# Altium footprint library FPGA-pcie.PcbLib: 31 footprints (part 2 of 2)
Each footprint in its own frame and in the unit in brackets; x right, y up, seen from the top. Pads: shape width x height; smd on the part's side, far side on the other; paste and mask are expansions set on the pad; w line width, h text height; cw(c..) or ccw(c..) is an arc to the next point about the centre after c.
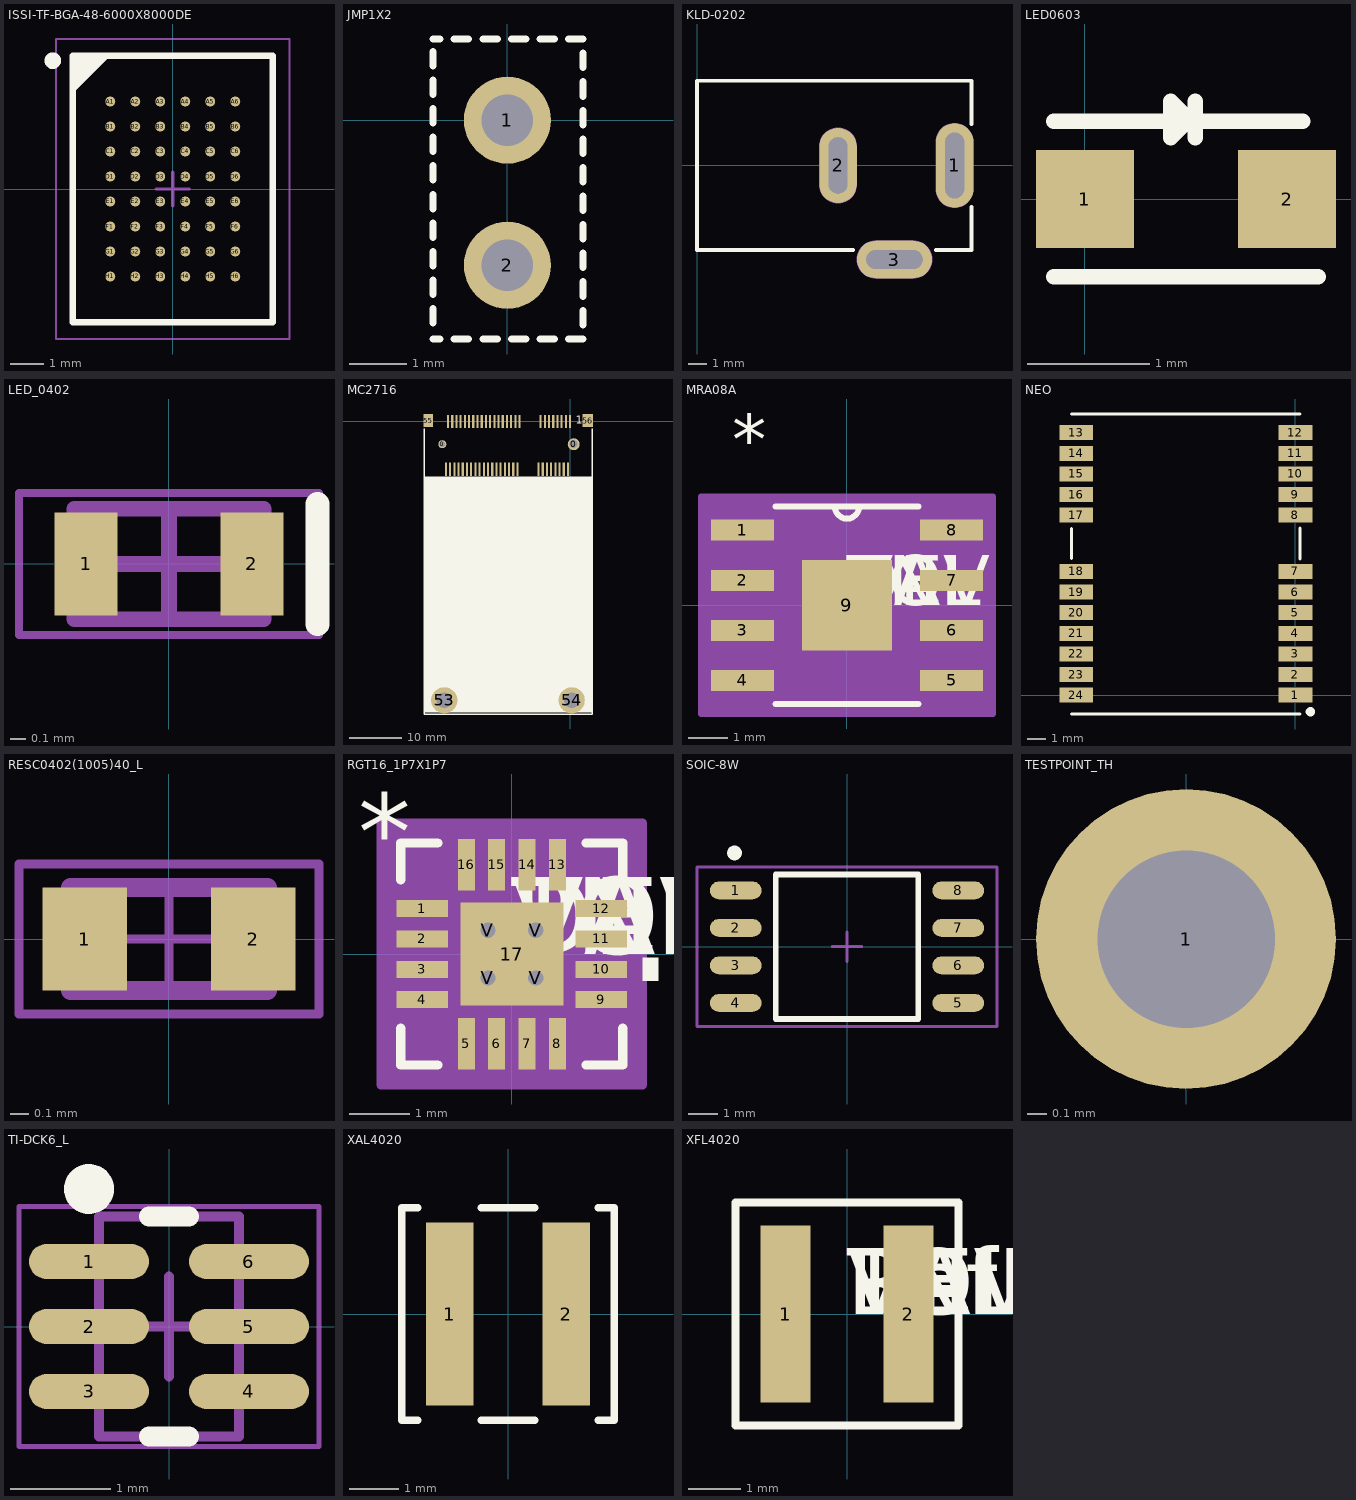
[diagram p1: the footprints below, top view; thin cyan lines are the x and y axes]

## ISSI-TF-BGA-48-6000X8000DE [mm]
height 1.75
pads (48):
  round 0.3 smd: A1(-1.875,2.625) A2(-1.125,2.625) A3(-0.375,2.625) A4(0.375,2.625) A5(1.125,2.625) A6(1.875,2.625) B1(-1.875,1.875) B2(-1.125,1.875) B3(-0.375,1.875) B4(0.375,1.875) B5(1.125,1.875) B6(1.875,1.875) C1(-1.875,1.125) C2(-1.125,1.125) C3(-0.375,1.125) C4(0.375,1.125) C5(1.125,1.125) C6(1.875,1.125) D1(-1.875,0.375) D2(-1.125,0.375) D3(-0.375,0.375) D4(0.375,0.375) D5(1.125,0.375) D6(1.875,0.375) E1(-1.875,-0.375) E2(-1.125,-0.375) E3(-0.375,-0.375) E4(0.375,-0.375) E5(1.125,-0.375) E6(1.875,-0.375) F1(-1.875,-1.125) F2(-1.125,-1.125) F3(-0.375,-1.125) F4(0.375,-1.125) F5(1.125,-1.125) F6(1.875,-1.125) G1(-1.875,-1.875) G2(-1.125,-1.875) G3(-0.375,-1.875) G4(0.375,-1.875) G5(1.125,-1.875) G6(1.875,-1.875) H1(-1.875,-2.625) H2(-1.125,-2.625) H3(-0.375,-2.625) H4(0.375,-2.625) H5(1.125,-2.625) H6(1.875,-2.625)
Top Overlay:
  circle w0.25: c-3.6,3.85 r0.125
  region: -2,4 -3,3 -3,4
  lines w0.2: -3,3 -2,4 ; -3,-4 -3,4 3,4 3,-4 -3,-4
Mechanical 13:
  lines w0.1: -3,-4 -3,4 3,4 3,-4 -3,-4
Mechanical 15:
  lines w0.05: -3.5,-4.5 -3.5,4.5 3.5,4.5 3.5,-4.5 -3.5,-4.5
  lines w0.1: -0.5,0 0.5,0 ; 0,-0.5 0,0.5
3D body: height 1.2, standoff 0.2, extent -3,-4 3,4

## JMP1X2 [mil]
height 47.24
pads (2):
  round 60 hole 35.5: 1(0,0) 2(0,-100)
Top Overlay:
  lines w5: -51.18,-150.8 -46.41,-150.8 ; -51.18,-100.39 -51.18,-90.55 ; -51.18,-80.71 -51.18,-70.87 ; -51.18,-61.02 -51.18,-51.18 ; -51.18,-41.34 -51.18,-31.5 ; -51.18,-21.65 -51.18,-11.81 ; -51.18,-1.97 -51.18,7.87 ; -51.18,17.72 -51.18,27.56 ; -51.18,37.4 -51.18,47.24 ; -51.18,55.89 -46.41,55.89 ; -36.57,55.89 -26.72,55.89 ; -16.88,-150.8 -7.04,-150.8 ; -16.88,55.89 -7.04,55.89 ; 2.8,-150.8 12.65,-150.8 ; 2.8,55.89 12.65,55.89 ; 22.49,-150.8 32.33,-150.8 ; 42.17,-150.8 52.02,-150.8 ; 42.17,55.89 52.02,55.89 ; 52.02,-101.59 52.02,-91.75 ; 52.02,-81.91 52.02,-72.06 ; 52.02,-62.22 52.02,-52.38 ; 52.02,-42.54 52.02,-32.69 ; 52.02,-22.85 52.02,-13.01 ; 52.02,-3.17 52.02,6.68 ; 52.02,16.52 52.02,26.36 ; 52.02,36.2 52.02,46.05 ; -51.18,-139.76 -51.18,-129.92 -51.18,-139.76 ; -51.18,-120.08 -51.18,-110.24 -51.18,-120.08 ; -36.57,-150.8 -26.72,-150.8 -36.57,-150.8 ; 22.49,55.89 32.33,55.89 22.49,55.89 ; 52.02,-140.96 52.02,-131.12 52.02,-140.96 ; 52.02,-121.28 52.02,-111.43 52.02,-121.28
3D body: height 323.43, standoff -117.51, extent -49.05,-153.94 49.32,46.06

## KLD-0202 [mm]
height 1.75
pads (3):
  oval 2x4.5 hole 1 slot 3.5 at 90 deg: 1(13.7,0)
  oval 2x4 hole 1 slot 3 at 90 deg: 2(7.5,0)
  oval 4x2 hole 1 slot 3 at 0 deg: 3(10.5,-5)
Top Overlay:
  lines w0.2: 8.3,-4.5 0,-4.5 0,4.5 14.6,4.5 14.6,2.2 ; 12.7,-4.5 14.6,-4.5 14.6,-2.2
Mechanical 1:
  lines w1: 7.5,-1 7.5,1 ; 9.5,-5 11.5,-5 ; 13.7,-1.25 13.7,1.25
Mechanical 2:
  lines w2.016: 7.5,-1 7.5,1 ; 9.5,-5 11.5,-5 ; 13.7,-1.25 13.7,1.25

## LED0603 [mm]
height 1.75
pads (2):
  rect 0.8x0.8 smd: 1(0,0) 2(1.651,0)
Top Overlay:
  lines w0.127: -0.254,-0.635 1.905,-0.635 ; -0.254,0.635 1.778,0.635 ; 0.9,0.5 0.9,0.635 ; 0.9,0.8 0.9,0.635 ; 0.835,0.635 0.9,0.635 ; 0.835,0.635 0.7,0.5 0.7,0.8 0.835,0.665 0.835,0.635

## LED_0402 [mm]
height 0.45
pads (2):
  rect 0.4x0.65 smd: 1(-0.525,0) 2(0.525,0)
Top Overlay:
  lines w0.15: 0.94,-0.382 0.94,0.38
Mechanical 13:
  lines w0.1: -0.6,-0.35 0.6,-0.35 0.6,0.35 -0.6,0.35 -0.6,-0.35
Mechanical 15:
  lines w0.05: -0.95,-0.45 0.95,-0.45 0.95,0.45 -0.95,0.45 -0.95,-0.45
  lines w0.1: -0.35,0 0.35,0 ; 0,-0.35 0,0.35
3D body: height 0.44, standoff -0.01, extent -0.525,-0.25 0.485,0.25

## MC2716 [mm]
height 1.75
pads (58):
  round 1.524 hole 0.991: 0(-24.3,-4.35)
  round 2.286 hole 1.524: 0(0.7,-4.35)
  rect 0.4x2.5 smd: 1(0,0) 2(-0.4,-9.1) 3(-0.8,0) 4(-1.2,-9.1) 5(-1.6,0) 6(-2,-9.1) 7(-2.4,0) 8(-2.8,-9.1) 9(-3.2,0) 10(-3.6,-9.1) 11(-4,0) 12(-4.4,-9.1) 13(-4.8,0) 14(-5.2,-9.1) 15(-5.6,0) 16(-6,-9.1) 17(-9.6,0) 18(-10,-9.1) 19(-10.4,0) 20(-10.8,-9.1) 21(-11.2,0) 22(-11.6,-9.1) 23(-12,0) 24(-12.4,-9.1) 25(-12.8,0) 26(-13.2,-9.1) 27(-13.6,0) 28(-14,-9.1) 29(-14.4,0) 30(-14.8,-9.1) 31(-15.2,0) 32(-15.6,-9.1) 33(-16,0) 34(-16.4,-9.1) 35(-16.8,0) 36(-17.2,-9.1) 37(-17.6,0) 38(-18,-9.1) 39(-18.4,0) 40(-18.8,-9.1) 41(-19.2,0) 42(-19.6,-9.1) 43(-20,0) 44(-20.4,-9.1) 45(-20.8,0) 46(-21.2,-9.1) 47(-21.6,0) 48(-22,-9.1) 49(-22.4,0) 50(-22.8,-9.1) 51(-23.2,0) 52(-23.6,-9.1)
  round 5 hole 3: 53(-23.92,-53.05) 54(0.316,-53.05)
  rect 1.8x2.5 smd: 55(-26.95,0.15)
  rect 2x2.5 smd: 56(3.35,0.15)
Top Overlay:
  rectangle: -27.698,-55.359 4.052,-10.502
  lines w0.254: -27.772,-34.088 -27.772,-1.44 ; -27.772,-33.952 -27.772,-49.702 -27.772,-55.634 -27.748,-55.658 4.208,-55.658 4.232,-55.634 4.232,-49.7 ; 4.232,-49.702 4.232,-33.952 4.236,-33.952 ; 4.232,-1.44 4.236,-33.95
  text "1" at 1.1,-0.419 h1.52

## MRA08A [mil]
height 270.08
pads (9):
  rect 63x21 smd: 1(-104.5,75) 2(-104.5,25) 3(-104.5,-25) 4(-104.5,-75) 5(104.5,-75) 6(104.5,-25) 7(104.5,25) 8(104.5,75)
  rect 90x90 smd paste-44.5: 9(0,0)
Top Overlay:
  lines w6: -71.38,-98.5 71.38,-98.5 ; -71.38,98.5 71.38,98.5 ; -12,98.5 ccw(c0,98.5) 12,98.5
  text "TOL" at 0,0 h50
  text "VAL" at 0,0 h50
  text "DEV" at 0,0 h50
  text "PN" at 0,0 h50
  text "*" at -114.5,141 h50
Top Paste:
  region: 45,45 -45,45 -45,-45 45,-45
Mechanical 13:
  lines w0: -12,98.5 ccw(c0,98.5) 12,98.5
  text "RefDes2" at 0,0 h50
  text "*" at -114.5,141 h50
Mechanical 15:
  region: 146,-108.5 -146,-108.5 -146,108.5 146,108.5
  lines w6: -146,-108.5 146,-108.5 146,108.5 -146,108.5 -146,-108.5

## NEO [mm] "u-blox NEO GNSS module"
height 6.86
pads (24):
  rect 1.8x0.8 smd paste-0.1: 1(0,0) 2(0,1.1) 3(0,2.2) 4(0,3.3) 5(0,4.4) 6(0,5.5) 7(0,6.6) 8(0,9.6) 9(0,10.7) 10(0,11.8) 11(0,12.9) 12(0,14) 13(-11.684,14) 14(-11.684,12.9) 15(-11.684,11.8) 16(-11.684,10.7) 17(-11.684,9.6) 18(-11.684,6.6) 19(-11.684,5.5) 20(-11.684,4.4) 21(-11.684,3.3) 22(-11.684,2.2) 23(-11.684,1.1) 24(-11.684,0)
Top Overlay:
  circle w0.38: c0.794,-0.879 r0.058
  lines w0.16: -11.951,-1 0.254,-1 ; -11.951,14.996 0.248,14.996 ; -11.944,7.299 -11.944,8.893 ; 0.254,7.255 0.254,8.919
Top Paste:
  rectangle: -12.675,2.9 -11.475,3.7
  rectangle: -12.675,-0.4 -11.475,0.4
  rectangle: -12.675,0.7 -11.475,1.5
  rectangle: -12.675,1.8 -11.475,2.6
  rectangle: -12.675,4 -11.475,4.8
  rectangle: -12.675,5.1 -11.475,5.9
  rectangle: -12.675,6.2 -11.475,7
  rectangle: -12.675,9.2 -11.475,10
  rectangle: -12.675,10.3 -11.475,11.1
  rectangle: -12.675,11.4 -11.475,12.2
  rectangle: -12.675,12.5 -11.475,13.3
  rectangle: -12.675,13.6 -11.475,14.4
  rectangle: -0.2,13.6 1,14.4
  rectangle: -0.2,12.5 1,13.3
  rectangle: -0.2,11.4 1,12.2
  rectangle: -0.2,10.3 1,11.1
  rectangle: -0.2,9.2 1,10
  rectangle: -0.2,6.2 1,7
  rectangle: -0.2,5.1 1,5.9
  rectangle: -0.2,4 1,4.8
  rectangle: -0.2,2.9 1,3.7
  rectangle: -0.2,1.8 1,2.6
  rectangle: -0.2,0.7 1,1.5
  rectangle: -0.2,-0.4 1,0.4
3D body: height 2.28, standoff -0.05, extent -11.946,-1 0.254,15

## RESC0402(1005)40_L [mm]
height 1.5
pads (2):
  rect 0.45x0.55 smd: 1(-0.45,0) 2(0.45,0)
Mechanical 13:
  lines w0.1: -0.525,-0.275 0.525,-0.275 0.525,0.275 -0.525,0.275 -0.525,-0.275
Mechanical 15:
  lines w0.05: -0.275,0 0.275,0 ; 0,-0.275 0,0.275 ; -0.8,-0.4 0.8,-0.4 0.8,0.4 -0.8,0.4 -0.8,-0.4
3D body: height 0.4, standoff 0, extent 0.3,-0.275 0.525,0.275
3D body: height 0.4, standoff 0, extent -0.3,-0.275 0.3,0.275
3D body: height 0.4, standoff 0, extent -0.525,-0.275 -0.3,0.275

## RGT16_1P7X1P7 [mm]
height 6.86
pads (21):
  rect 0.85x0.28 smd paste-0.412: 1(-1.475,0.75) 2(-1.475,0.25) 3(-1.475,-0.25) 4(-1.475,-0.75) 9(1.475,-0.75) 10(1.475,-0.25) 11(1.475,0.25) 12(1.475,0.75)
  rect 0.28x0.85 smd paste-0.412: 5(-0.75,-1.475) 6(-0.25,-1.475) 7(0.25,-1.475) 8(0.75,-1.475) 13(0.75,1.475) 14(0.25,1.475) 15(-0.25,1.475) 16(-0.75,1.475)
  rect 1.7x1.7 smd paste-0.837 mask-0.838: 17(0,0)
  round 0.508 / inner round 1.524 / far side round 0.508 hole 0.254: V(-0.394,-0.394) V(-0.394,0.394) V(0.394,-0.394) V(0.394,0.394)
Top Overlay:
  region: 2.154,-0.059 2.408,-0.059 2.408,-0.44 2.154,-0.44
  lines w0.152: -1.829,-1.223 -1.829,-1.829 -1.223,-1.829 ; -1.829,1.223 -1.829,1.829 -1.223,1.829 ; 1.223,-1.829 1.829,-1.829 1.829,-1.223 ; 1.223,1.829 1.829,1.829 1.829,1.223
  text "TOL" at 0,0 h1.27
  text "VAL" at 0,0 h1.27
  text "DEV" at 0,0 h1.27
  text "PN" at 0,0 h1.27
  text "*" at -2.535,1.381 h1.27
Top Paste:
  region: 0.775,-0.494 0.635,-0.494 0.494,-0.635 0.494,-0.775 0.775,-0.775
  region: 0.775,0.294 0.635,0.294 0.494,0.152 0.494,-0.152 0.635,-0.294 0.775,-0.294
  region: 0.775,0.775 0.494,0.775 0.494,0.635 0.635,0.494 0.775,0.494
  region: 0.152,-0.494 -0.152,-0.494 -0.294,-0.635 -0.294,-0.775 0.294,-0.775 0.294,-0.635
  region: 0.152,0.294 -0.152,0.294 -0.294,0.152 -0.294,-0.152 -0.152,-0.294 0.152,-0.294 0.294,-0.152 0.294,0.152
  region: 0.294,0.775 -0.294,0.775 -0.294,0.635 -0.152,0.494 0.152,0.494 0.294,0.635
  region: -0.635,-0.494 -0.775,-0.494 -0.775,-0.775 -0.494,-0.775 -0.494,-0.635
  region: -0.635,0.294 -0.775,0.294 -0.775,-0.294 -0.635,-0.294 -0.494,-0.152 -0.494,0.152
  region: -0.494,0.775 -0.775,0.775 -0.775,0.494 -0.635,0.494 -0.494,0.635
  region: -0.635,1.875 -0.865,1.875 -0.865,1.075 -0.635,1.075
  region: -0.135,1.875 -0.365,1.875 -0.365,1.075 -0.135,1.075
  region: 0.365,1.875 0.135,1.875 0.135,1.075 0.365,1.075
  region: 0.865,1.875 0.635,1.875 0.635,1.075 0.865,1.075
  region: 1.875,0.865 1.075,0.865 1.075,0.635 1.875,0.635
  region: 1.875,0.365 1.075,0.365 1.075,0.135 1.875,0.135
  region: 1.875,-0.135 1.075,-0.135 1.075,-0.365 1.875,-0.365
  region: 1.875,-0.635 1.075,-0.635 1.075,-0.865 1.875,-0.865
  region: 0.865,-1.075 0.635,-1.075 0.635,-1.875 0.865,-1.875
  region: 0.365,-1.075 0.135,-1.075 0.135,-1.875 0.365,-1.875
  region: -0.135,-1.075 -0.365,-1.075 -0.365,-1.875 -0.135,-1.875
  region: -0.635,-1.075 -0.865,-1.075 -0.865,-1.875 -0.635,-1.875
  region: -1.075,-0.635 -1.875,-0.635 -1.875,-0.865 -1.075,-0.865
  region: -1.075,-0.135 -1.875,-0.135 -1.875,-0.365 -1.075,-0.365
  region: -1.075,0.365 -1.875,0.365 -1.875,0.135 -1.075,0.135
  region: -1.075,0.865 -1.875,0.865 -1.875,0.635 -1.075,0.635
Top Solder:
  region: 0.594,-0.914 0.594,0.914 0.914,0.914 0.914,-0.914
  region: 0.194,-0.914 0.194,0.914 -0.194,0.914 -0.194,-0.914
  region: -0.914,-0.914 -0.914,0.914 -0.594,0.914 -0.594,-0.914
  region: -0.914,-0.914 -0.914,-0.594 0.914,-0.594 0.914,-0.914
  region: -0.914,-0.194 -0.914,0.194 0.914,0.194 0.914,-0.194
  region: -0.914,0.594 -0.914,0.914 0.914,0.914 0.914,0.594
  region: -0.541,1.97 -0.96,1.97 -0.96,0.98 -0.541,0.98
  region: -0.04,1.97 -0.46,1.97 -0.46,0.98 -0.04,0.98
  region: 0.46,1.97 0.04,1.97 0.04,0.98 0.46,0.98
  region: 0.96,1.97 0.541,1.97 0.541,0.98 0.96,0.98
  region: 1.97,0.96 0.98,0.96 0.98,0.54 1.97,0.54
  region: 1.97,0.46 0.98,0.46 0.98,0.04 1.97,0.04
  region: 1.97,-0.04 0.98,-0.04 0.98,-0.46 1.97,-0.46
  region: 1.97,-0.54 0.98,-0.54 0.98,-0.96 1.97,-0.96
  region: 0.96,-0.98 0.541,-0.98 0.541,-1.97 0.96,-1.97
  region: 0.46,-0.98 0.04,-0.98 0.04,-1.97 0.46,-1.97
  region: -0.04,-0.98 -0.46,-0.98 -0.46,-1.97 -0.04,-1.97
  region: -0.541,-0.98 -0.96,-0.98 -0.96,-1.97 -0.541,-1.97
  region: -0.98,-0.54 -1.97,-0.54 -1.97,-0.96 -0.98,-0.96
  region: -0.98,-0.04 -1.97,-0.04 -1.97,-0.46 -0.98,-0.46
  region: -0.98,0.46 -1.97,0.46 -1.97,0.04 -0.98,0.04
  region: -0.98,0.96 -1.97,0.96 -1.97,0.54 -0.98,0.54
Mechanical 13:
  text "RefDes2" at 0,0 h1.27
  text "*" at -2.535,1.381 h1.27
Mechanical 15:
  region: 2.154,-2.154 -2.154,-2.154 -2.154,2.154 2.154,2.154
  lines w0.152: -2.154,-2.154 2.154,-2.154 2.154,2.154 -2.154,2.154 -2.154,-2.154

## SOIC-8W [mm] "SPI_FLASH"
height 1.75
pads (8):
  oval 1.75x0.6 smd: 1(-3.768,1.905) 2(-3.768,0.635) 3(-3.768,-0.635) 4(-3.768,-1.905) 5(3.768,-1.905) 6(3.768,-0.635) 7(3.768,0.635) 8(3.768,1.905)
Top Overlay:
  circle w0.25: c-3.808,3.175 r0.125
  lines w0.2: -2.413,-2.45 -2.413,2.45 2.413,2.45 2.413,-2.45 -2.413,-2.45
Mechanical 15:
  lines w0.1: -0.5,0 0.5,0 ; 0,-0.5 0,0.5 ; -5.08,-2.7 -5.08,2.7 5.08,2.7 5.08,-2.7 -5.08,-2.7

## TESTPOINT_TH [mil]
height 68.9
pads (1):
  round 60 hole 35.5: 1(0,0)

## TI-DCK6_L [mm]
height 1.75
pads (6):
  oval 1.2x0.35 smd: 1(-0.8,0.65) 2(-0.8,0) 3(-0.8,-0.65) 4(0.8,-0.65) 5(0.8,0) 6(0.8,0.65)
Top Overlay:
  circle w0.25: c-0.8,1.375 r0.125
  lines w0.2: -0.2,-1.1 0.2,-1.1 ; -0.2,1.1 0.2,1.1
Mechanical 13:
  lines w0.1: -0.7,-1.1 -0.7,1.1 0.7,1.1 0.7,-1.1 -0.7,-1.1
Mechanical 15:
  lines w0.05: -1.5,-1.2 -1.5,1.2 1.5,1.2 1.5,-1.2 -1.5,-1.2
  lines w0.1: -0.5,0 0.5,0 ; 0,-0.5 0,0.5
3D body: height 1.1, standoff 0, extent -0.7,-1.1 0.7,1.1

## XAL4020 [mil]
height 68.9
pads (2):
  rect 38x146 smd: 1(-46.5,0) 2(46.5,0)
Top Overlay:
  lines w6: -71.77,-84.5 -84.5,-84.5 -84.5,84.5 -71.77,84.5 ; -21.23,-84.5 21.23,-84.5 ; -21.23,84.5 21.23,84.5 ; 71.77,-84.5 84.5,-84.5 84.5,84.5 71.77,84.5

## XFL4020 [mil]
height 68.9
pads (2):
  rect 38x134 smd: 1(-46.5,0) 2(46.5,0)
Top Overlay:
  lines w6: -84.5,-84.5 -84.5,84.5 84.5,84.5 84.5,-84.5 -84.5,-84.5
  text "TOL" at 0,0 h50
  text "VAL" at 0,0 h50
  text "DEV" at 0,0 h50
  text "PN" at 0,0 h50
  text "DEV" at 0,0 h50
  text "RefDes" at 0,0 h50